# EAGLE library part LTC1860-MSOP8 (library Neel)
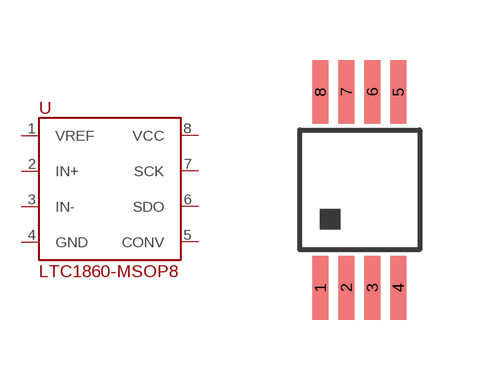
[diagram p37: symbol with the pads of MSOP-8; footprint MSOP-8]

Designator prefix -

## LTC1860-MSOP8  [MSOP-8]
1  VREF
2  IN+
3  IN-
4  GND
5  CONV
6  SDO
7  SCK
8  VCC

## Footprint MSOP-8 (pad centres in mm)
smd 0.4 x 1.6: 1 0.52,-0.95; 2 1.17,-0.95; 3 1.82,-0.95; 4 2.47,-0.95; 5 2.47,3.95; 6 1.82,3.95; 7 1.17,3.95; 8 0.52,3.95